# Altium footprint library MainPcblib.PcbLib: 316 footprints (part 4 of 20)
Each footprint in its own frame and in the unit in brackets; x right, y up, seen from the top. Pads: shape width x height; smd on the part's side, far side on the other; paste and mask are expansions set on the pad; w line width, h text height; cw(c..) or ccw(c..) is an arc to the next point about the centre after c.
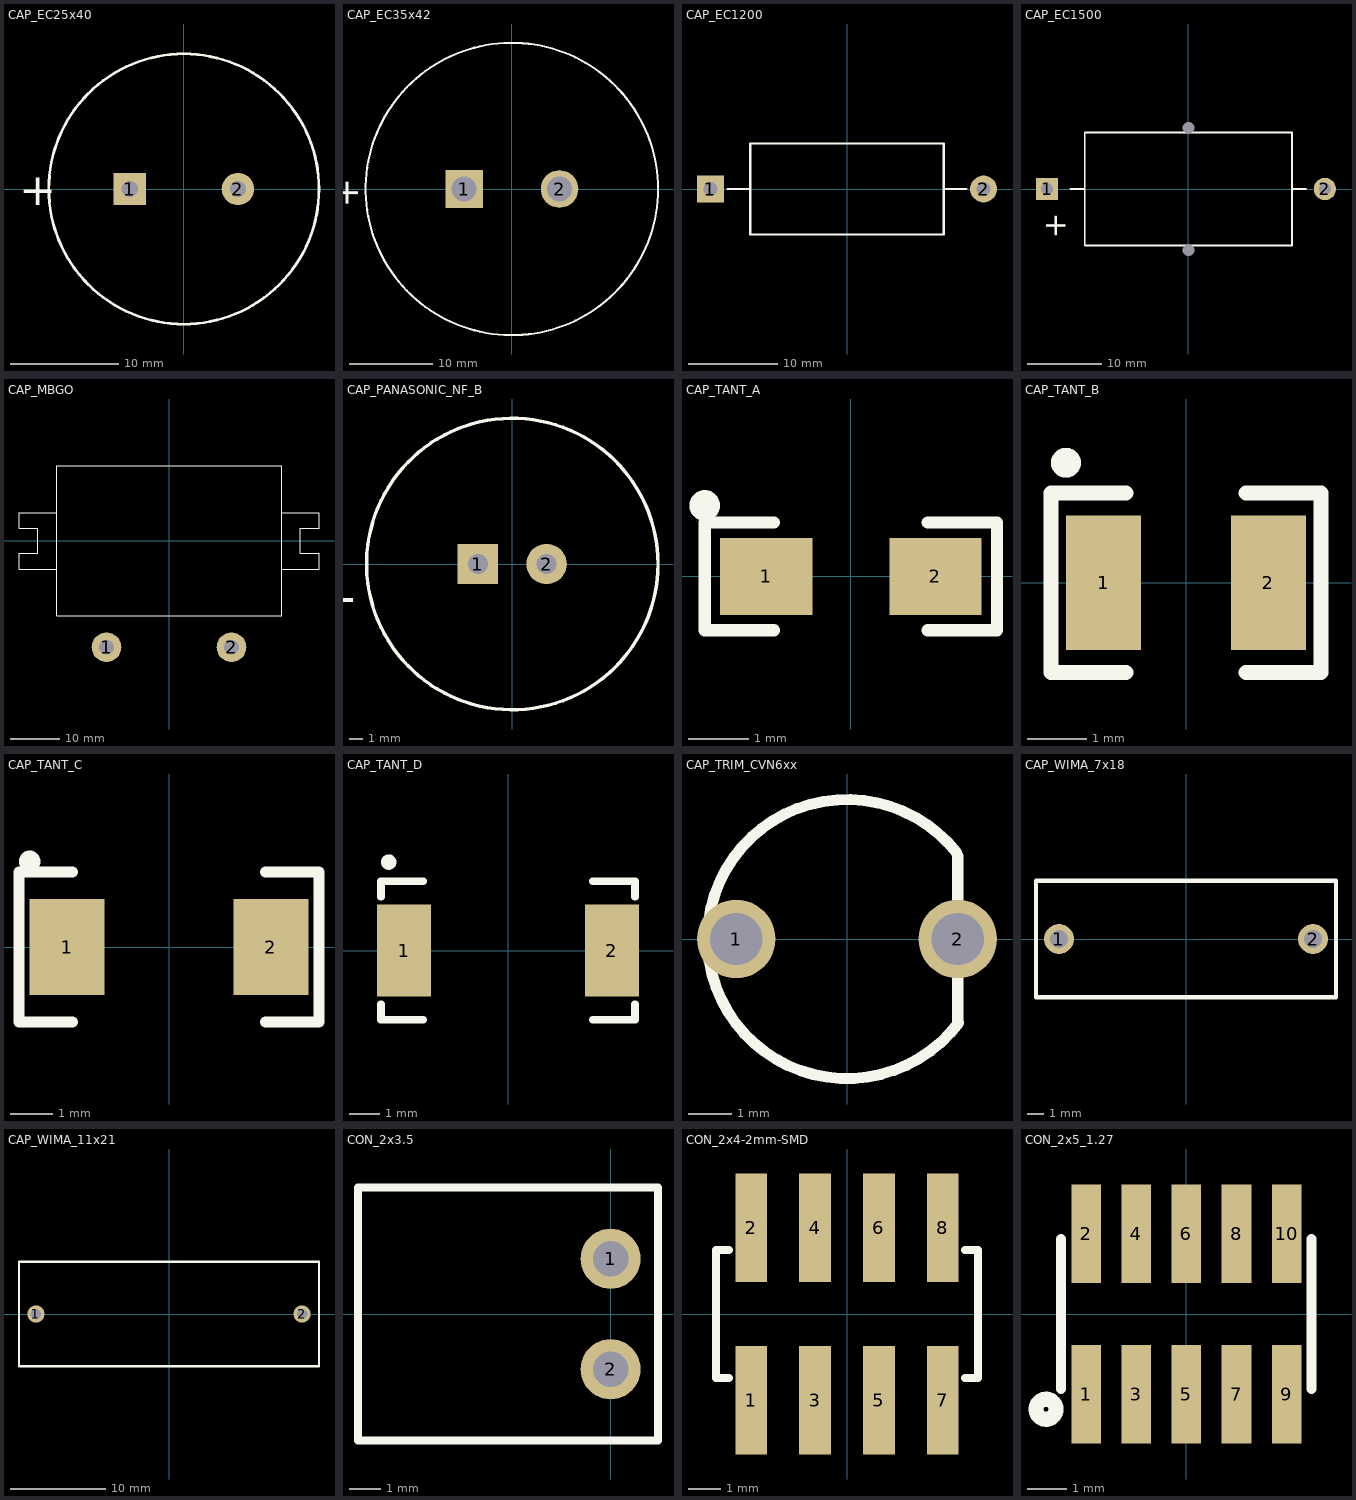
[diagram p3: the footprints below, top view; thin cyan lines are the x and y axes]

## CAP_EC25x40 [mm] "6800uF/50V;4700uF/63V;680uF/160V;470uF/250V;220uF/350V"
height 40
pads (2):
  rect 3x3 hole 1.5: 1(-5,0)
  round 3 hole 1.5: 2(5,0)
Top Overlay:
  circle w0.254: c0,0 r12.5
  text "+" at -15.25,-1.5 h3

## CAP_EC35x42 [mm] "390uF/450V"
height 42
pads (2):
  rect 4.5x4.5 hole 3: 1(-5.715,0)
  round 4.5 hole 3: 2(5.715,0)
Top Overlay:
  circle w0.254: c0,0 r17.5
  text "+" at -18.415,1.27 h3.05

## CAP_EC1200 [mm]
pads (2):
  rect 3x3 hole 1.6: 1(-15.24,0)
  round 3 hole 1.6: 2(15.24,0)
Top Overlay:
  lines w0.254: -13.335,0 -10.795,0 ; 10.795,0 13.335,0 ; -10.795,0 -10.795,5.08 10.795,5.08 10.795,-5.08 -10.795,-5.08 -10.795,0

## CAP_EC1500 [mm] "EC 100uF/25V;220uF/100V"
pads (4):
  rect 3x3 hole 1.6: 1(-19.05,0)
  round 3 hole 1.6: 2(18.415,0)
  round 0 hole 1.6: 3(0,8.255) 4(0,-8.255)
Top Overlay:
  lines w0.254: -15.875,0 -13.97,0 ; 13.97,0 15.875,0 ; -13.97,-7.62 -13.97,7.62 13.97,7.62 13.97,-7.62 -13.97,-7.62
  text "+" at -16.51,-3.175 h3.05

## CAP_MBGO [mm] "Capacitor"
pads (2):
  round 6 hole 3: 1(-12.7,-21.59) 2(12.7,-21.59)
Top Overlay:
  lines w0.254: -22.86,-5.715 -30.48,-5.715 -30.48,-2.54 -26.67,-2.54 -26.67,2.54 -30.48,2.54 -30.48,5.715 -22.86,5.715 ; 22.86,-5.715 30.48,-5.715 30.48,-2.54 26.67,-2.54 26.67,2.54 30.48,2.54 30.48,5.715 22.86,5.715 ; -22.86,-15.24 -22.86,15.24 22.86,15.24 22.86,-15.24 -22.86,-15.24

## CAP_PANASONIC_NF_B [mm] "Panasonic Stacked-coin Supercap"
height 8
pads (2):
  rect 3x3 hole 1.5: 1(-2.54,0)
  round 3 hole 1.5: 2(2.54,0)
Top Overlay:
  circle w0.254: c0,0 r10.8
  text "+" at -11.43,-3.81 h2.54

## CAP_TANT_A [mil]
pads (2):
  rect 60x50 smd: 1(-55,0) 2(55,0)
Top Overlay:
  circle w10: c-95,46 r5
  lines w8: -50,-35 -95,-35 -95,35 -50,35 ; 50,-35 95,-35 95,35 50,35

## CAP_TANT_B [mil]
pads (2):
  rect 50x90 smd: 1(-55,0) 2(55,0)
Top Overlay:
  circle w10: c-80,80 r5
  lines w10: -40,-60 -90,-60 -90,60 -40,60 ; 40,-60 90,-60 90,60 40,60

## CAP_TANT_C [mil]
pads (2):
  rect 70x90 smd: 1(-95,0) 2(95,0)
Top Overlay:
  circle w10: c-130,80 r5
  lines w10: -90,-70 -140,-70 -140,70 -90,70 ; 90,-70 140,-70 140,70 90,70

## CAP_TANT_D [mil]
pads (2):
  rect 70x120 smd: 1(-135,0) 2(135,0)
Top Overlay:
  circle w10: c-155,115 r5
  lines w10: -165,-70 -165,-90 -110,-90 ; -165,70 -165,90 -110,90 ; 110,-90 165,-90 165,-70 ; 110,90 165,90 165,70

## CAP_TRIM_CVN6xx [mm] "TrimCap CVN6xx"
height 5
pads (2):
  round 1.8 hole 1.2: 1(-2.54,0) 2(2.54,0)
Top Overlay:
  lines w0.254: 2.512,1.983 ccw(c0,0) 2.56,-1.92 ; 2.54,-1.905 2.54,1.905

## CAP_WIMA_7x18 [mm]
pads (2):
  round 1.8 hole 1.1: 1(-7.62,0) 2(7.62,0)
Top Overlay:
  lines w0.254: -9,-3.5 9,-3.5 9,3.5 -9,3.5 -9,-3.5

## CAP_WIMA_11x21 [mm]
pads (2):
  round 1.8 hole 1.1: 1(-13.97,0) 2(13.97,0)
Top Overlay:
  lines w0.254: -15.75,-5.5 -15.75,5.5 15.75,5.5 15.75,-5.5 -15.75,-5.5

## CON_2x3.5 [mm]
pads (2):
  round 1.905 hole 1.118: 1(0,1.75) 2(0,-1.75)
Top Overlay:
  lines w0.254: -8,-4 -8,4 0,4 1.5,4 1.5,-4 -8,-4

## CON_2x4-2mm-SMD [mm]
pads (8):
  rect 1x3.4 smd paste+0: 1(-3,-2.7)
  rect 1x3.4 smd: 2(-3,2.7) 3(-1,-2.7) 4(-1,2.7) 5(1,-2.7) 6(1,2.7) 7(3,-2.7) 8(3,2.7)
Top Overlay:
  lines w0.254: -3.7,-2 -4.1,-2 -4.1,2 -3.7,2 ; 3.7,-2 4.1,-2 4.1,2 3.7,2

## CON_2x5_1.27 [mm] "HN2X17-1.27 SMD"
pads (10):
  rect 0.75x2.5 smd: 1(-2.54,-2.032) 2(-2.54,2.032) 3(-1.27,-2.032) 4(-1.27,2.032) 5(0,-2.032) 6(0,2.032) 7(1.27,-2.032) 8(1.27,2.032) 9(2.54,-2.032) 10(2.54,2.032)
Top Overlay:
  circle w0.381: c-3.556,-2.413 r0.254
  lines w0.254: -3.175,-1.905 -3.175,1.905 ; 3.175,-1.905 3.175,1.905